# EAGLE library part RGB6LED (library mastrogippo)
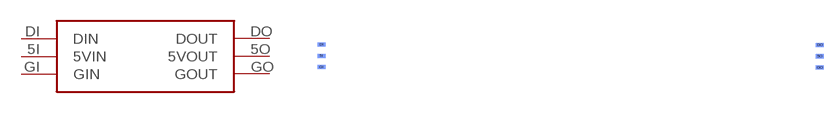
[diagram p28: symbol with the pads of RGB6LED; footprint RGB6LED]

Designator prefix -

## RGB6LED  [RGB6LED]
5I  5VIN
5O  5VOUT
DI  DIN
DO  DOUT
GI  GIN
GO  GOUT

## Footprint RGB6LED (pad centres in mm)
smd 1.778 x 0.914 bottom: 5I -5.9,5.04; 5O 105.9,4.94; DI -5.9,7.58; DO 105.9,7.48; GI -5.9,2.5; GO 105.9,2.4